# EAGLE library part MCP2515_MODULE_ESPELHADO (library MCP2515_Module)
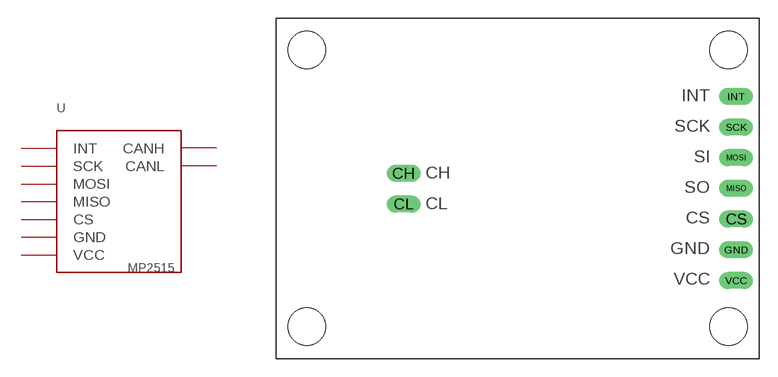
[diagram p1: symbol with the pads of MCP2515_MODULE_ESPELHADO; footprint MCP2515_MODULE_ESPELHADO]

Designator prefix -

## MCP2515_MODULE_ESPELHADO  [MCP2515_MODULE_ESPELHADO]
CH  CANH
CL  CANL
CS  CS
GND  GND
INT  INT
MISO  MISO
MOSI  MOSI
SCK  SCK
VCC  VCC

## Footprint MCP2515_MODULE_ESPELHADO (pad centres in mm)
drill 0.9 pad 1.3 long: CH -26.831,-9.98; CL -26.831,-12.52; CS 0.689,-13.765; GND 0.689,-16.305; INT 0.689,-3.605; MISO 0.689,-11.225; MOSI 0.689,-8.685; SCK 0.689,-6.145; VCC 0.689,-18.845
hole 3.1 at 0.059,-22.67
hole 3.1 at 0.059,0.23
hole 3.1 at -34.841,0.23
hole 3.1 at -34.841,-22.67